# Altium footprint library debug_connectors.PcbLib: 4 footprints
Each footprint in its own frame and in the unit in brackets; x right, y up, seen from the top. Pads: shape width x height; smd on the part's side, far side on the other; paste and mask are expansions set on the pad; w line width, h text height; cw(c..) or ccw(c..) is an arc to the next point about the centre after c.
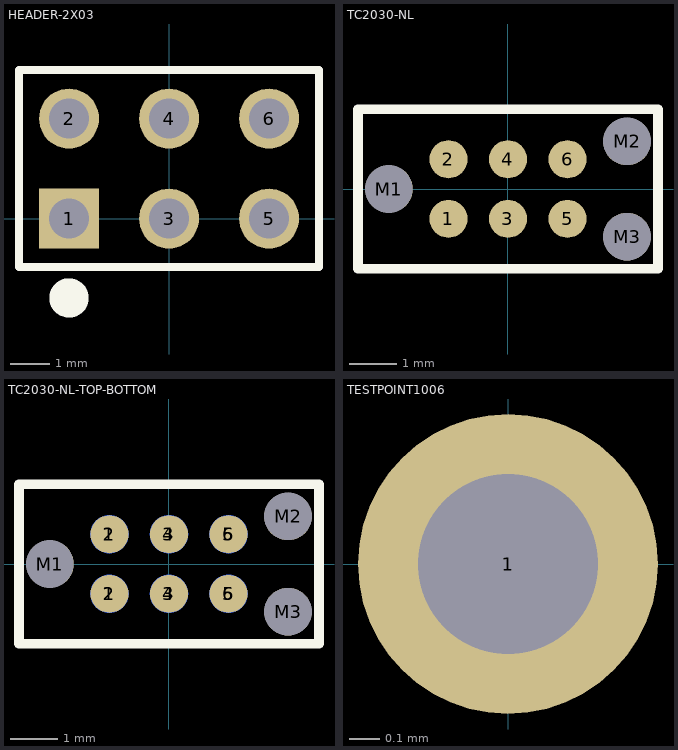
[diagram p0: the footprints below, top view; thin cyan lines are the x and y axes]

## HEADER-2X03 [mil]
pads (6):
  rect 60x60 hole 40: 1(-100,0)
  round 60 hole 40: 2(-100,100) 3(0,0) 4(0,100) 5(100,0) 6(100,100)
Top Overlay:
  circle w19.68: c-100,-79.4 r9.84
  lines w7.87: -150.01,-48.43 149.99,-48.43 149.99,148.42 -150.01,148.42 -150.01,-48.43
3D body "2x3 TH Pitch 2_54mm.STEP": height 362.2, standoff -137.8, extent -151.09,-49.21 148.91,150.79

## TC2030-NL [mil]
pads (9):
  rrect100% 32x32 smd: 1(-50,-25) 2(-50,25) 3(0,-25) 4(0,25) 5(50,-25) 6(50,25)
  round 40 hole 40 unplated: M1(-100,0) M3(100,-40)
  round 40 hole 40 unplated paste+0: M2(100,40)
Top Overlay:
  lines w8: -125.98,-66.93 -125.98,67 126,67 126,-66.93 -125.98,-66.93
3D body "TC2030-6Pin-NL.step": height 1035.43, standoff -177.17, extent -188.43,-117.84 185.59,114.44
3D body "TC20X0.stp": height -31.66, standoff -291.51, extent -259.4,-98.92 173.67,97.93

## TC2030-NL-TOP-BOTTOM [mil]
pads (15):
  rrect100% 32x32 smd: 1(-50,-25) 2(-50,25) 3(0,-25) 4(0,25) 5(50,-25) 6(50,25)
  rrect100% 32x32 smd far side: 1(-50,25) 2(-50,-25) 3(0,25) 4(0,-25) 5(50,25) 6(50,-25)
  round 40 hole 40 unplated: M1(-100,0) M3(100,-40)
  round 40 hole 40 unplated paste+0: M2(100,40)
Top Overlay:
  lines w8: -125.98,-66.93 -125.98,67 126,67 126,-66.93 -125.98,-66.93
Bottom Overlay:
  lines w8: -125.98,-66.93 126,-66.93 126,67 -125.98,67 -125.98,-66.93
3D body "TC2030-6Pin-NL.step": height 1035.43, standoff -177.17, extent -188.43,-117.84 185.59,114.44
3D body "TC20X0.stp": height -31.66, standoff -291.51, extent -259.4,-98.92 173.67,97.93

## TESTPOINT1006 [mm]
pads (1):
  round 1 hole 0.6: 1(0,0)